# Altium footprint library C1206F105K5RAC7800.PcbLib: 3 footprints
Each footprint in its own frame and in the unit in brackets; x right, y up, seen from the top. Pads: shape width x height; smd on the part's side, far side on the other; paste and mask are expansions set on the pad; w line width, h text height; cw(c..) or ccw(c..) is an arc to the next point about the centre after c.
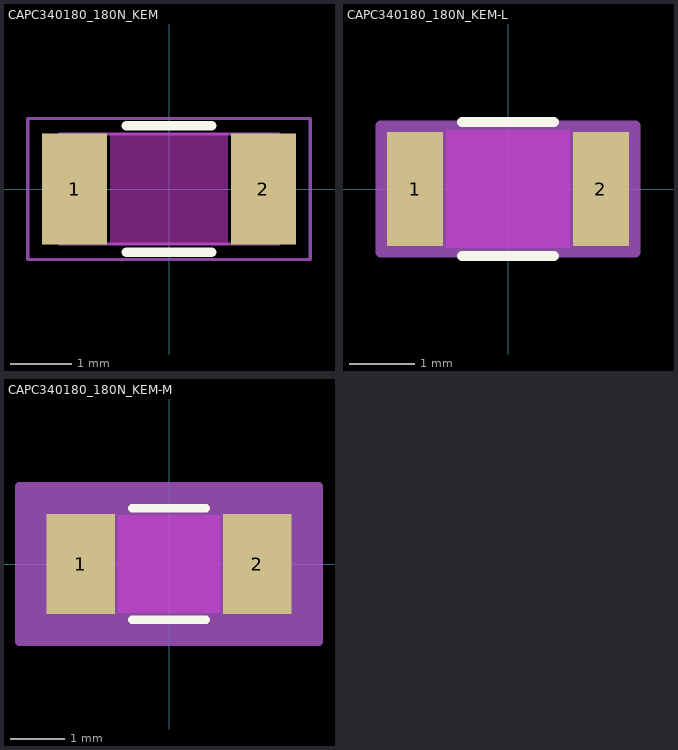
[diagram p0: the footprints below, top view; thin cyan lines are the x and y axes]

## CAPC340180_180N_KEM [mm]
pads (2):
  rect 1.056x1.8 smd paste+0 mask+0: 1(-1.528,0) 2(1.528,0)
Top Layer keep-out:
  region: -0.949,-0.849 -0.949,0.849 0.949,0.849 0.949,-0.849
Top Overlay:
  lines w0.152: -0.692,-1.027 0.692,-1.027 ; -0.692,1.027 0.692,1.027
Keep-Out Layer:
  region: -0.949,-0.9 -0.949,0.9 0.949,0.9 0.949,-0.9
Mechanical 13:
  lines w0.025: -1.7,-0.9 -1.7,0.9 ; -1.7,-0.9 -1.2,-0.9 -1.2,0.9 -1.7,0.9 ; -1.7,-0.9 1.7,-0.9 ; -1.7,-0.9 -1.7,0.9 ; -1.7,0.9 1.7,0.9 ; 1.7,-0.9 1.2,-0.9 1.2,0.9 1.7,0.9 ; 1.7,-0.9 1.7,0.9 ; 1.7,-0.9 1.7,0.9
Mechanical 15:
  lines w0.051: -1.778,-0.889 1.778,-0.889 1.778,0.889 -1.778,0.889 -1.778,-0.889
Mechanical 2 (Mech20):
  lines w0.051: -2.286,-1.143 2.286,-1.143 2.286,1.143 -2.286,1.143 -2.286,-1.143
3D body "CAPC340180_180N_KEM.step": height 1.8, standoff 0, extent -1.7,-0.9 1.7,0.9

## CAPC340180_180N_KEM-L [mm]
pads (2):
  rect 0.852x1.749 smd paste+0 mask+0: 1(-1.426,0) 2(1.426,0)
Top Layer keep-out:
  region: -0.949,-0.849 -0.949,0.849 0.949,0.849 0.949,-0.849
Top Overlay:
  lines w0.152: -0.704,-1.027 0.704,-1.027 ; -0.704,1.027 0.704,1.027
Keep-Out Layer:
  region: -0.949,-0.9 -0.949,0.9 0.949,0.9 0.949,-0.9
Mechanical 13:
  lines w0.025: -1.7,-0.9 -1.7,0.9 ; -1.7,-0.9 -1.2,-0.9 -1.2,0.9 -1.7,0.9 ; -1.7,-0.9 1.7,-0.9 ; -1.7,-0.9 -1.7,0.9 ; -1.7,0.9 1.7,0.9 ; 1.7,-0.9 1.2,-0.9 1.2,0.9 1.7,0.9 ; 1.7,-0.9 1.7,0.9 ; 1.7,-0.9 1.7,0.9
Mechanical 15:
  region: 1.954,-0.976 -1.954,-0.976 -1.954,0.976 1.954,0.976
  lines w0.152: -1.954,-0.976 -1.954,0.976 1.954,0.976 1.954,-0.976 -1.954,-0.976
3D body "CAPC340180_180N_KEM.step": height 1.8, standoff 0, extent -1.7,-0.9 1.7,0.9

## CAPC340180_180N_KEM-M [mm]
pads (2):
  rect 1.259x1.851 smd paste+0 mask+0: 1(-1.629,0) 2(1.629,0)
Top Layer keep-out:
  region: -0.949,-0.849 -0.949,0.849 0.949,0.849 0.949,-0.849
Top Overlay:
  lines w0.152: -0.683,-1.027 0.683,-1.027 ; -0.683,1.027 0.683,1.027
Keep-Out Layer:
  region: -0.949,-0.9 -0.949,0.9 0.949,0.9 0.949,-0.9
Mechanical 13:
  lines w0.025: -1.7,-0.9 -1.7,0.9 ; -1.7,-0.9 -1.2,-0.9 -1.2,0.9 -1.7,0.9 ; -1.7,-0.9 1.7,-0.9 ; -1.7,-0.9 -1.7,0.9 ; -1.7,0.9 1.7,0.9 ; 1.7,-0.9 1.2,-0.9 1.2,0.9 1.7,0.9 ; 1.7,-0.9 1.7,0.9 ; 1.7,-0.9 1.7,0.9
Mechanical 15:
  region: 2.767,-1.433 -2.767,-1.433 -2.767,1.433 2.767,1.433
  lines w0.152: -2.767,-1.433 -2.767,1.433 2.767,1.433 2.767,-1.433 -2.767,-1.433
3D body "CAPC340180_180N_KEM.step": height 1.8, standoff 0, extent -1.7,-0.9 1.7,0.9